# Altium schematic symbol library LTM4643.SchLib: 1 symbol
Pins are listed as number, name and electrical type; pins without a type are passive.

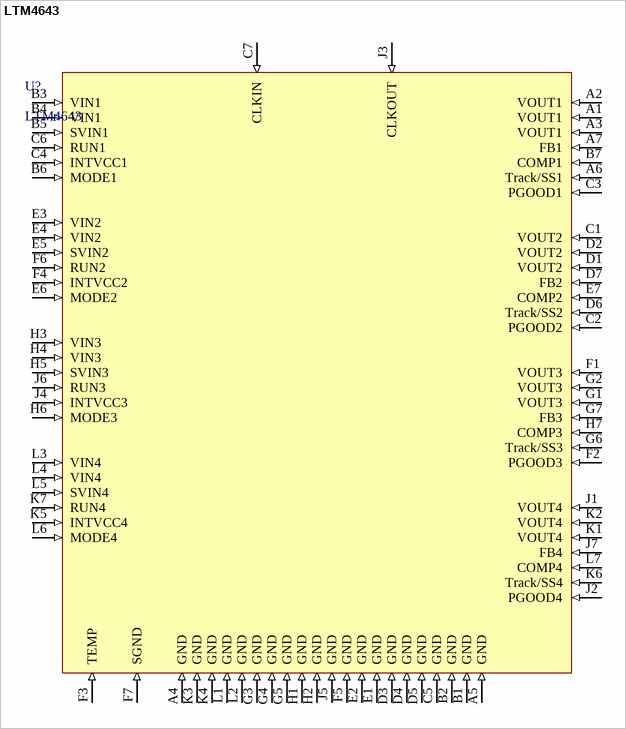
[diagram p0: symbol LTM4643]

## LTM4643
designator U?
footprint LTM4643 15X9X2.42 05-08-1908
pins: A1 VOUT1 (in), A2 VOUT1 (in), A3 VOUT1 (in), A4 GND (in), A5 GND (in), A6 Track/SS1 (in), A7 FB1 (in), B1 GND (in), B2 GND (in), B3 VIN1 (in), B4 VIN1 (in), B5 SVIN1 (in), B6 MODE1 (in), B7 COMP1 (in), C1 VOUT2 (in), C2 PGOOD2 (in), C3 PGOOD1 (in), C4 INTVCC1 (in), C5 GND (in), C6 RUN1 (in), C7 CLKIN (in), D1 VOUT2 (in), D2 VOUT2 (in), D3 GND (in), D4 GND (in), D5 GND (in), D6 Track/SS2 (in), D7 FB2 (in), E1 GND (in), E2 GND (in), E3 VIN2 (in), E4 VIN2 (in), E5 SVIN2 (in), E6 MODE2 (in), E7 COMP2 (in), F1 VOUT3 (in), F2 PGOOD3 (in), F3 TEMP (in), F4 INTVCC2 (in), F5 GND (in), F6 RUN2 (in), F7 SGND (in), G1 VOUT3 (in), G2 VOUT3 (in), G3 GND (in), G4 GND (in), G5 GND (in), G6 Track/SS3 (in), G7 FB3 (in), H1 GND (in), H2 GND (in), H3 VIN3 (in), H4 VIN3 (in), H5 SVIN3 (in), H6 MODE3 (in), H7 COMP3 (in), J1 VOUT4 (in), J2 PGOOD4 (in), J3 CLKOUT (in), J4 INTVCC3 (in), J5 GND (in), J6 RUN3 (in), J7 FB4 (in), K1 VOUT4 (in), K2 VOUT4 (in), K3 GND (in), K4 GND (in), K5 INTVCC4 (in), K6 Track/SS4 (in), K7 RUN4 (in), L1 GND (in), L2 GND (in), L3 VIN4 (in), L4 VIN4 (in), L5 SVIN4 (in), L6 MODE4 (in), L7 COMP4 (in)